# Altium footprint library ECX-32.PcbLib: 1 footprints
Each footprint in its own frame and in the unit in brackets; x right, y up, seen from the top. Pads: shape width x height; smd on the part's side, far side on the other; paste and mask are expansions set on the pad; w line width, h text height; cw(c..) or ccw(c..) is an arc to the next point about the centre after c.
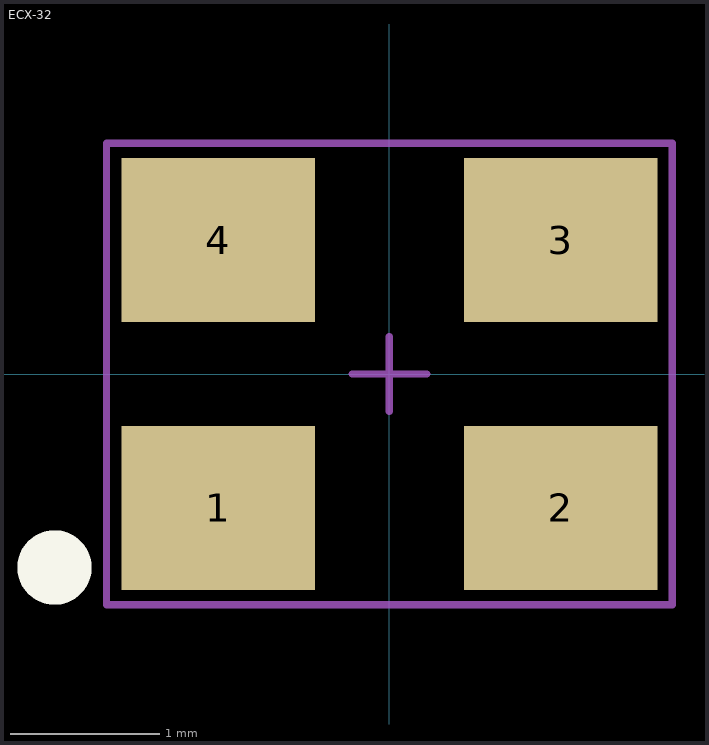
[diagram p0: the footprint, top view; thin cyan lines are the x and y axes]

## ECX-32 [mm] "ECS Inc. Crystal ECX-32 Series"
pads (4):
  rect 1.3x1.1 smd mask+0.05: 1(-1.15,-0.9) 2(1.15,-0.9) 3(1.15,0.9) 4(-1.15,0.9)
Top Overlay:
  circle w0.25: c-2.25,-1.3 r0.125
Mechanical 15 (Mech15):
  lines w0.05: -0.25,0 0.25,0 ; 0,-0.25 0,0.25 ; -1.9,-1.55 1.9,-1.55 1.9,1.55 -1.9,1.55 -1.9,-1.55
3D body: height 0.8, standoff 0, extent -1.6,-1.25 1.6,1.25